# Altium schematic symbol library hdmi_lvds.SchLib: 63 symbols
Pins are listed as number, name and electrical type; pins without a type are passive.

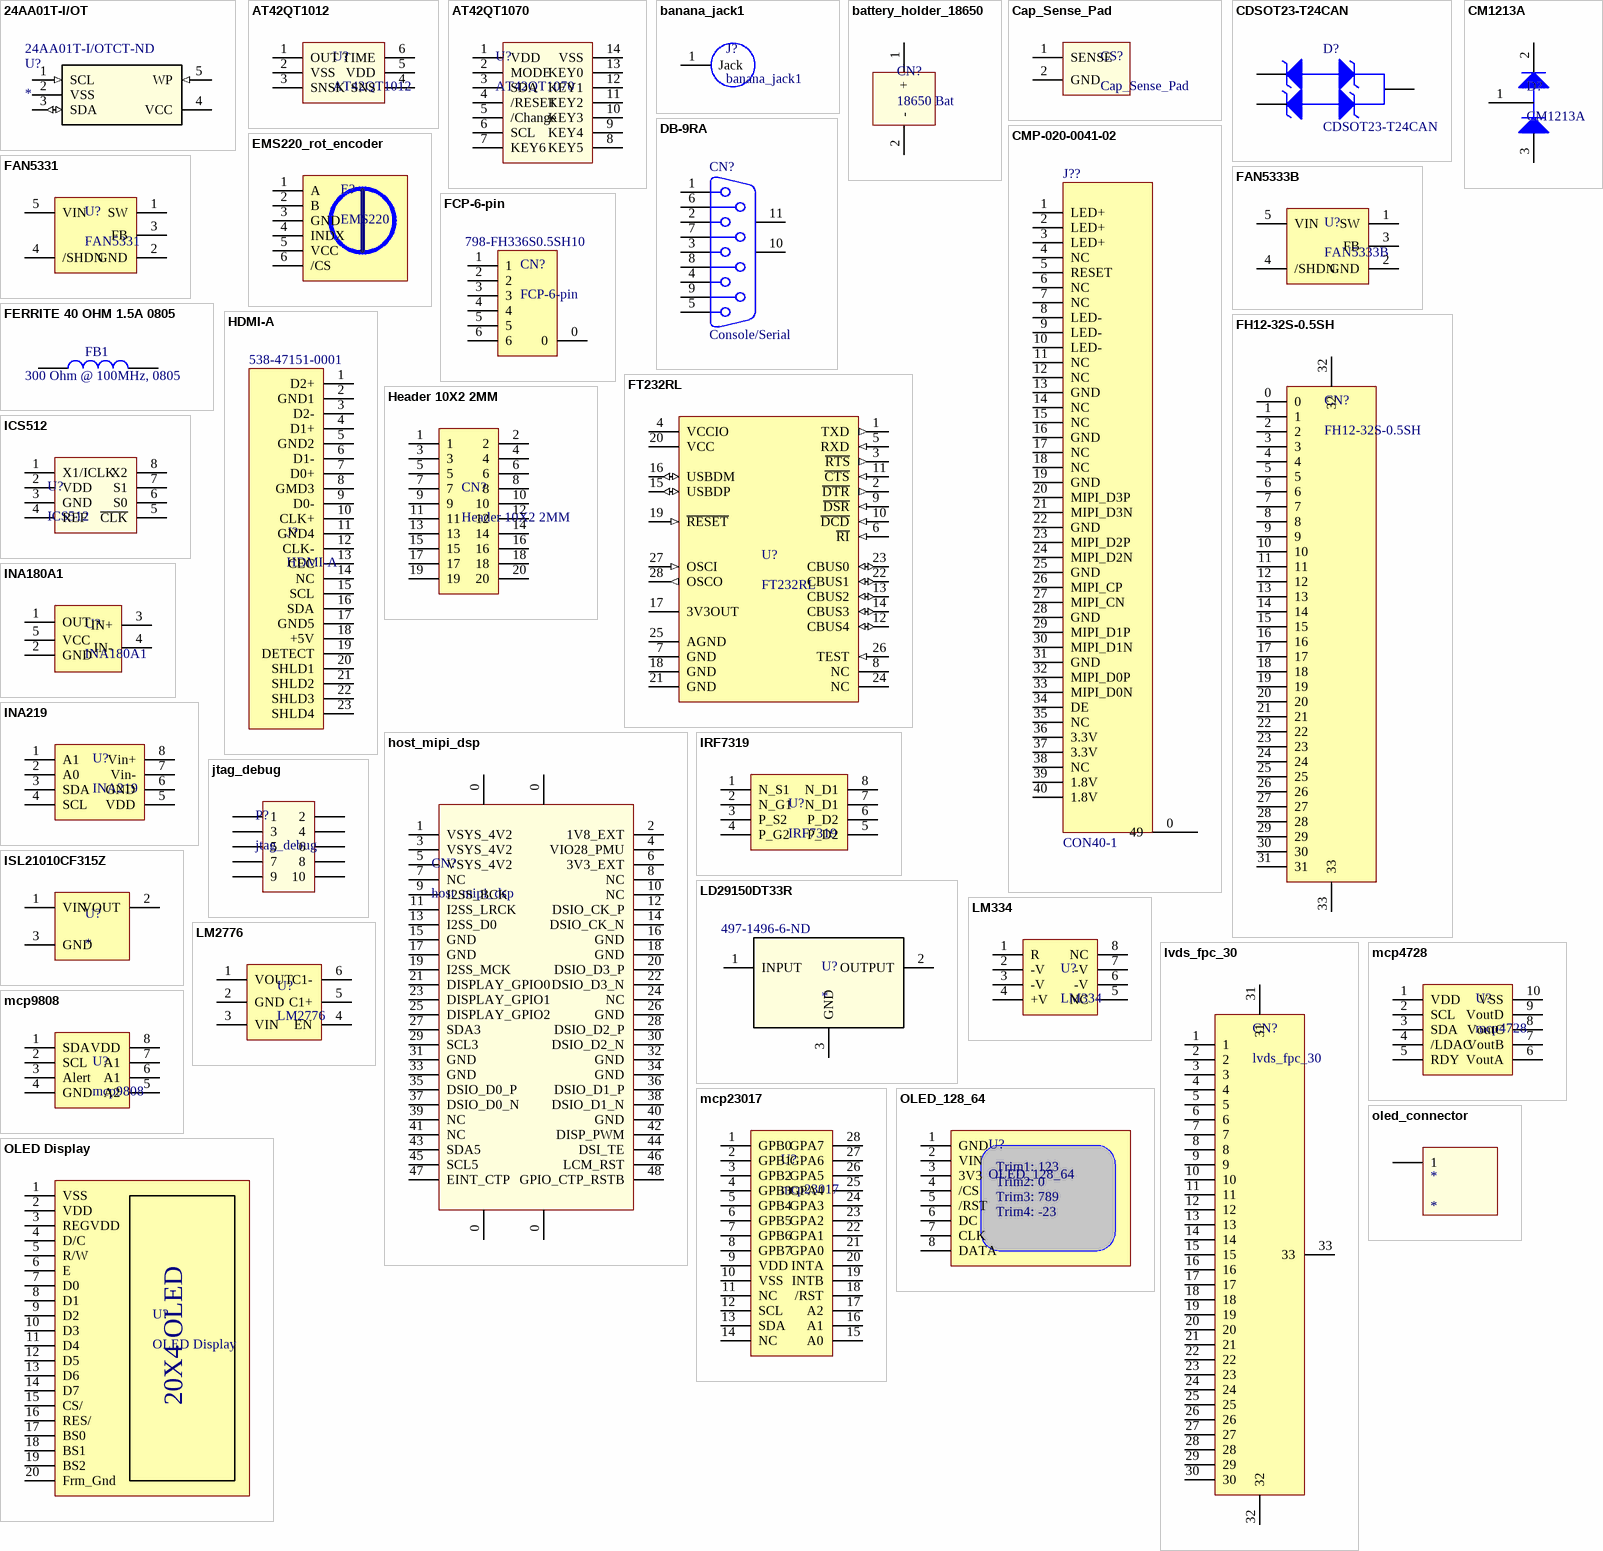
[diagram p0: symbols 24AA01T-I/OT to oled_connector]

## 24AA01T-I/OT
designator U?  Supplier Part Number 1: 24AA01T-I/OTCT-ND
Imported; Manufacturer_Part_Number: 24AA01T-I/OT; Vendor: Microchip; Built_By: EMA_UL_Team; C: Copyright (C) 2015 Accelerated Designs. All rights reserved; RefDes: RefDes; Type: DEV; Value: Value; Supplier 1: Digi-Key
footprint SOT-23-5_MC
pins: 1 SCL (in), 2 VSS, 3 SDA (io), 4 VCC, 5 WP (in)

## AT42QT1012
designator U?
CAP QTouch Chip
footprint SOt-23-6
pins: 1 OUT, 2 VSS, 3 SNSK, 4 SNS, 5 VDD, 6 TIME

## AT42QT1070
designator U?
QTouch IC
footprint SOP14
pins: 1 VDD, 2 MODE, 3 SDA, 4 /RESET, 5 /Change, 6 SCL, 7 KEY6, 8 KEY5, 9 KEY4, 10 KEY3, 11 KEY2, 12 KEY1, 13 KEY0, 14 VSS

## banana_jack1
designator J?
footprint Banana_jack1
pins: 1 Jack

## battery_holder_18650
designator CN?, comment 18650 Bat
footprint battery_holder_18650
pins: 1 +, 2 -

## Cap_Sense_Pad
designator CS?
footprint CAP_SENSE_PAD
footprint CAP_TOUCH_ROUND
pins: 1 SENSE, 2 GND

## CDSOT23-T24CAN
designator D?
CANbus protector; Manufacturer: Bourns; Vendor: Digikey; PN: CDSOT23-T24CANCT-ND; MPN: CDSOT23-T24CAN
footprint SOT23 (SOT-23; 3 Leads; Body 3.0 x 2.5 mm, inc. leads (LxW max))
pins: 1 A, 2 K2, 3 K1

## CM1213A
designator D?
footprint SOT23 (SOT-23; 3 Leads; Body 3.0 x 2.5 mm, inc. leads (LxW max))
pins: 1 K, 2 A2, 3 A1

## CMP-020-0041-02
designator J??, comment CON40-1
40pin PH0.5 FPC for LCD; Manufacturer: Molex, LLC; Manufacturer Part Number: 0541044031; Voltage Rating: 50V; Pitch: 0.020" (0.50mm); Flat Flex Type: FFC, FPC; Mating Cycles: 20; Current Rating: 0.5A; Material Flammability Rating: UL94 V-0; FFC, FCB Thickness: 0.30mm; Number of Positions: 40; Locking Feature: Slide Lock; Termination: Solder; ComponentLink1URL: https://www.molex.com/pdm_docs/sd/541044031_sd.pdf; Pin Count: 41; Component Name: CON40-1; ComponentLink1Description: https://www.molex.com/pdm_docs/sd/541044031_sd.pdf; Height Above Board: 0.079" (2.00mm); RoHS: RoHS Compliant; Mounting Type: Surface Mount, Right Angle; Housing Material: Polyamide (PA46), Nylon 4/6, Glass Filled; Stock 1: 10041; Part Status: Active; Designator: CON40-1; Pricing 1: 1=2.8, 10=2.686, 25=2.4624, 50=2.3506, 100=2.2387, 250=1.95888, 500=1.90292 (USD); Housing Color: White; Operating Temperature: -20°C ~ 85°C; Packaging: Cut Tape (CT); Features: Solder Retention, Zero Insertion Force (ZIF); Manufacturer 1: 0541044031; Manufacturer Part Number 1: 0541044031; Manufacturer 2: Molex; Manufacturer Part Number 2: 54104-4031
footprint SMD FPC SOCKET HD-0.5X40-2
pins: 0 49, 1 LED+, 2 LED+, 3 LED+, 4 NC, 5 RESET, 6 NC, 7 NC, 8 LED-, 9 LED-, 10 LED-, 11 NC, 12 NC, 13 GND, 14 NC, 15 NC, 16 GND, 17 NC, 18 NC, 19 GND, 20 MIPI_D3P, 21 MIPI_D3N, 22 GND, 23 MIPI_D2P, 24 MIPI_D2N, 25 GND, 26 MIPI_CP, 27 MIPI_CN, 28 GND, 29 MIPI_D1P, 30 MIPI_D1N, 31 GND, 32 MIPI_D0P, 33 MIPI_D0N, 34 DE, 35 NC, 36 3.3V, 37 3.3V, 38 NC, 39 1.8V, 40 1.8V

## DB-9RA
designator CN?, comment Console/Serial
Receptacle Assembly, 9 Position, Right Angle; Vendor: Jameco
footprint DB9RAF-SB (DB-9 Right Angle, Short Body)
pins: 1, 2, 3, 4, 5, 6, 7, 8, 9, 10 MH1, 11 MH2

## EMS220_rot_encoder
designator E?, comment EMS220
EMS220_rot_encoder
footprint EMS220_FP (EMS220 rot encoder FP)
pins: 1 A, 2 B, 3 GND, 4 INDX, 5 VCC, 6 /CS

## FAN5331
designator U?
footprint SOT-23-5_MC-L
pins: 1 SW, 2 GND, 3 FB, 4 /SHDN, 5 VIN

## FAN5333B
designator U?
footprint SOT-23-5_MC-L
pins: 1 SW, 2 GND, 3 FB, 4 /SHDN, 5 VIN

## FCP-6-pin
designator CN?  Supplier Part Number 1: 798-FH336S0.5SH10
Supplier 1: Mouser
footprint conn ffc 6 pin
pins: 0, 1, 2, 3, 4, 5, 6

## FERRITE 40 OHM 1.5A 0805
designator FB1, comment 300 Ohm @ 100MHz, 0805
40 OHM 0805 1.5A; Manufacturer: Laird-Signal Integrity Products; Manufacturer Part Number: MI0805K400R-10; DC Resistance (DCR): 50 mOhm Max; Filter Type: Differential Mode - Single; Impedance @ Frequency: 40 Ohm @ 100MHz; Creator: osman; Supplier 1: Digi-Key; RoHS: RoHS Compliant; Category: Filters; Stock 1: 112318; Pricing 1: 1=0.1, 10=0.077, 25=0.07, 50=0.0628, 100=0.0461, 250=0.03352, 500=0.03074, 1000=0.02654 (USD); Packaging: Cut Tape (CT); Current Rating: 1.5A; Package / Case: 0805 (2012 Metric); Mounting Type: Surface Mount; Height (Max): 0.043" (1.10mm); Size / Dimension: 0.079" L x 0.049" W (2.00mm x 1.25mm); ComponentLink1URL: http://staging.lairdtech.com/WorkArea/linkit.aspx?LinkIdentifier=id&ItemID=4949; ComponentLink1Description: http://staging.lairdtech.com/WorkArea/linkit.aspx?LinkIdentifier=id&ItemID=4949; Supplier Part Number 1: 240-2389-1-ND
footprint RESC0805(2012)_N (Chip Resistor, Body 2.0x1.3mm, IPC Medium Density)
footprint RESC0805(2012)_L (Chip Resistor, Body 2.0x1.3mm, IPC High Density)
footprint RESC0805(2012)_M (Chip Resistor, Body 2.0x1.3mm, IPC Low Density)
pins: 1, 2

## FH12-32S-0.5SH
designator CN?
footprint FH12-32S-0,5SH (LVDS_FPC_30)
pins: 0, 1, 2, 3, 4, 5, 6, 7, 8, 9, 10, 11, 12, 13, 14, 15, 16, 17, 18, 19, 20, 21, 22, 23, 24, 25, 26, 27, 28, 29, 30, 31, 32, 33

## FT232RL
designator U?
footprint FT232RL (SOP65P780X200-28L0N, Small Outline Pkg (SOP), 0.65 mm pitch;28 pin,7.80 mm L X 5.30 mm W X 2.00 mm H body)
pins: 1 TXD (out), 2 ~{DTR} (out), 3 ~{RTS} (out), 4 VCCIO (power), 5 RXD (in), 6 ~{RI} (in), 7 GND (power), 8 NC, 9 ~{DSR} (in), 10 ~{DCD} (in), 11 ~{CTS} (in), 12 CBUS4 (io), 13 CBUS2 (io), 14 CBUS3 (io), 15 USBDP (io), 16 USBDM (io), 17 3V3OUT (power), 18 GND (power), 19 ~{RESET} (in), 20 VCC (power), 21 GND (power), 22 CBUS1 (io), 23 CBUS0 (io), 24 NC, 25 AGND (power), 26 TEST (in), 27 OSCI (in), 28 OSCO (out)

## HDMI-A
designator J?  Supplier Part Number 1: 538-47151-0001
Supplier 1: Mouser
footprint HDMI (HDMI normal)
pins: 1 D2+, 2 GND1, 3 D2-, 4 D1+, 5 GND2, 6 D1-, 7 D0+, 8 GMD3, 9 D0-, 10 CLK+, 11 GND4, 12 CLK-, 13 CEC, 14 NC, 15 SCL, 16 SDA, 17 GND5, 18 +5V, 19 DETECT, 20 SHLD1, 21 SHLD2, 22 SHLD3, 23 SHLD4

## Header 10X2 2MM
designator CN?
footprint Header 10x2 2mm
pins: 1, 2, 3, 4, 5, 6, 7, 8, 9, 10, 11, 12, 13, 14, 15, 16, 17, 18, 19, 20

## host_mipi_dsp
designator CN?
pins: 0, 0, 0, 0, 1 VSYS_4V2, 2 1V8_EXT, 3 VSYS_4V2, 4 VIO28_PMU, 5 VSYS_4V2, 6 3V3_EXT, 7 NC, 8 NC, 9 I2SS_BCK, 10 NC, 11 I2SS_LRCK, 12 DSIO_CK_P, 13 I2SS_D0, 14 DSIO_CK_N, 15 GND, 16 GND, 17 GND, 18 GND, 19 I2SS_MCK, 20 DSIO_D3_P, 21 DISPLAY_GPIO0, 22 DSIO_D3_N, 23 DISPLAY_GPIO1, 24 NC, 25 DISPLAY_GPIO2, 26 GND, 27 SDA3, 28 DSIO_D2_P, 29 SCL3, 30 DSIO_D2_N, 31 GND, 32 GND, 33 GND, 34 GND, 35 DSIO_D0_P, 36 DSIO_D1_P, 37 DSIO_D0_N, 38 DSIO_D1_N, 39 NC, 40 GND, 41 NC, 42 DISP_PWM, 43 SDA5, 44 DSI_TE, 45 SCL5, 46 LCM_RST, 47 EINT_CTP, 48 GPIO_CTP_RSTB

## ICS512
designator U?
footprint SOIC8
pins: 1 X1/ICLK, 2 VDD, 3 GND, 4 REF, 5 ~{CLK}, 6 S0, 7 S1, 8 X2

## INA180A1
designator U?
footprint SOT-23-5_MC
pins: 1 OUT, 2 GND, 3 IN+, 4 IN-, 5 VCC

## INA219
designator U?
Current Monitor IC
footprint INA219 (Current Monitor)
pins: 1 A1, 2 A0, 3 SDA, 4 SCL, 5 VDD, 6 GND, 7 Vin-, 8 Vin+

## IRF7319
designator U?
pins: 1 N_S1, 2 N_G1, 3 P_S2, 4 P_G2, 5 P_D2, 6 P_D2, 7 N_D1, 8 N_D1

## ISL21010CF315Z
designator U?
footprint SOT23 (SOT-23; 3 Leads; Body 3.0 x 2.5 mm, inc. leads (LxW max))
pins: 1 VIN, 2 VOUT, 3 GND

## jtag_debug
designator P?
footprint jtag_debug
pins: 1, 2, 3, 4, 5, 6, 7, 8, 9, 10

## LD29150DT33R
designator U?  Supplier Part Number 1: 497-1496-6-ND
Imported; Manufacturer_Part_Number: LD29150DT33R; Built_By: EMA_UL_Team; Vendor: STMicroelectronics; RefDes: RefDes; Type: DEV; Value: Value; Supplier 1: Digi-Key
footprint DPAK
pins: 1 INPUT, 2 OUTPUT, 3 GND

## LM334
designator U?
LM334, Current source
footprint LM334 (LM334, Current Source)
footprint LM334 (LM334, Current Source)
pins: 1 R, 2 -V, 3 -V, 4 +V, 5 NC, 6 -V, 7 -V, 8 NC

## LM2776
designator U?
footprint SOt-23-6
pins: 1 VOUT, 2 GND, 3 VIN, 4 EN, 5 C1+, 6 C1-

## lvds_fpc_30
designator CN?
footprint LVDS_FPC_30
pins: 1, 2, 3, 4, 5, 6, 7, 8, 9, 10, 11, 12, 13, 14, 15, 16, 17, 18, 19, 20, 21, 22, 23, 24, 25, 26, 27, 28, 29, 30, 31, 32, 33

## mcp4728
designator U?
footprint MCP4728 (12 bit, Quad DAC)
pins: 1 VDD, 2 SCL, 3 SDA, 4 /LDAC, 5 RDY, 6 VoutA, 7 VoutB, 8 VoutC, 9 VoutD, 10 VSS

## mcp9808
designator U?
footprint 8MSOP
pins: 1 SDA, 2 SCL, 3 Alert, 4 GND, 5 A2, 6 A1, 7 A1, 8 VDD

## mcp23017
designator U?
I2C 16 bit Expander
footprint SOIC28
pins: 1 GPB0, 2 GPB1, 3 GPB2, 4 GPB3, 5 GPB4, 6 GPB5, 7 GPB6, 8 GPB7, 9 VDD, 10 VSS, 11 NC, 12 SCL, 13 SDA, 14 NC, 15 A0, 16 A1, 17 A2, 18 /RST, 19 INTB, 20 INTA, 21 GPA0, 22 GPA1, 23 GPA2, 24 GPA3, 25 GPA4, 26 GPA5, 27 GPA6, 28 GPA7

## OLED Display
designator U?
footprint oled (OLED Display)
pins: 1 VSS, 2 VDD, 3 REGVDD, 4 D/C, 5 R/W, 6 E, 7 D0, 8 D1, 9 D2, 10 D3, 11 D4, 12 D5, 13 D6, 14 D7, 15 CS/, 16 RES/, 17 BS0, 18 BS1, 19 BS2, 20 Frm_Gnd
text: 20X4 OLED

## OLED_128_64
designator U?
footprint OLED_128_64
pins: 1 GND, 2 VIN, 3 3V3, 4 /CS, 5 /RST, 6 DC, 7 CLK, 8 DATA
text: Trim1: 123; Trim2: 0; Trim3: 789; Trim4: -23

## oled_connector
designator *
pins: 1

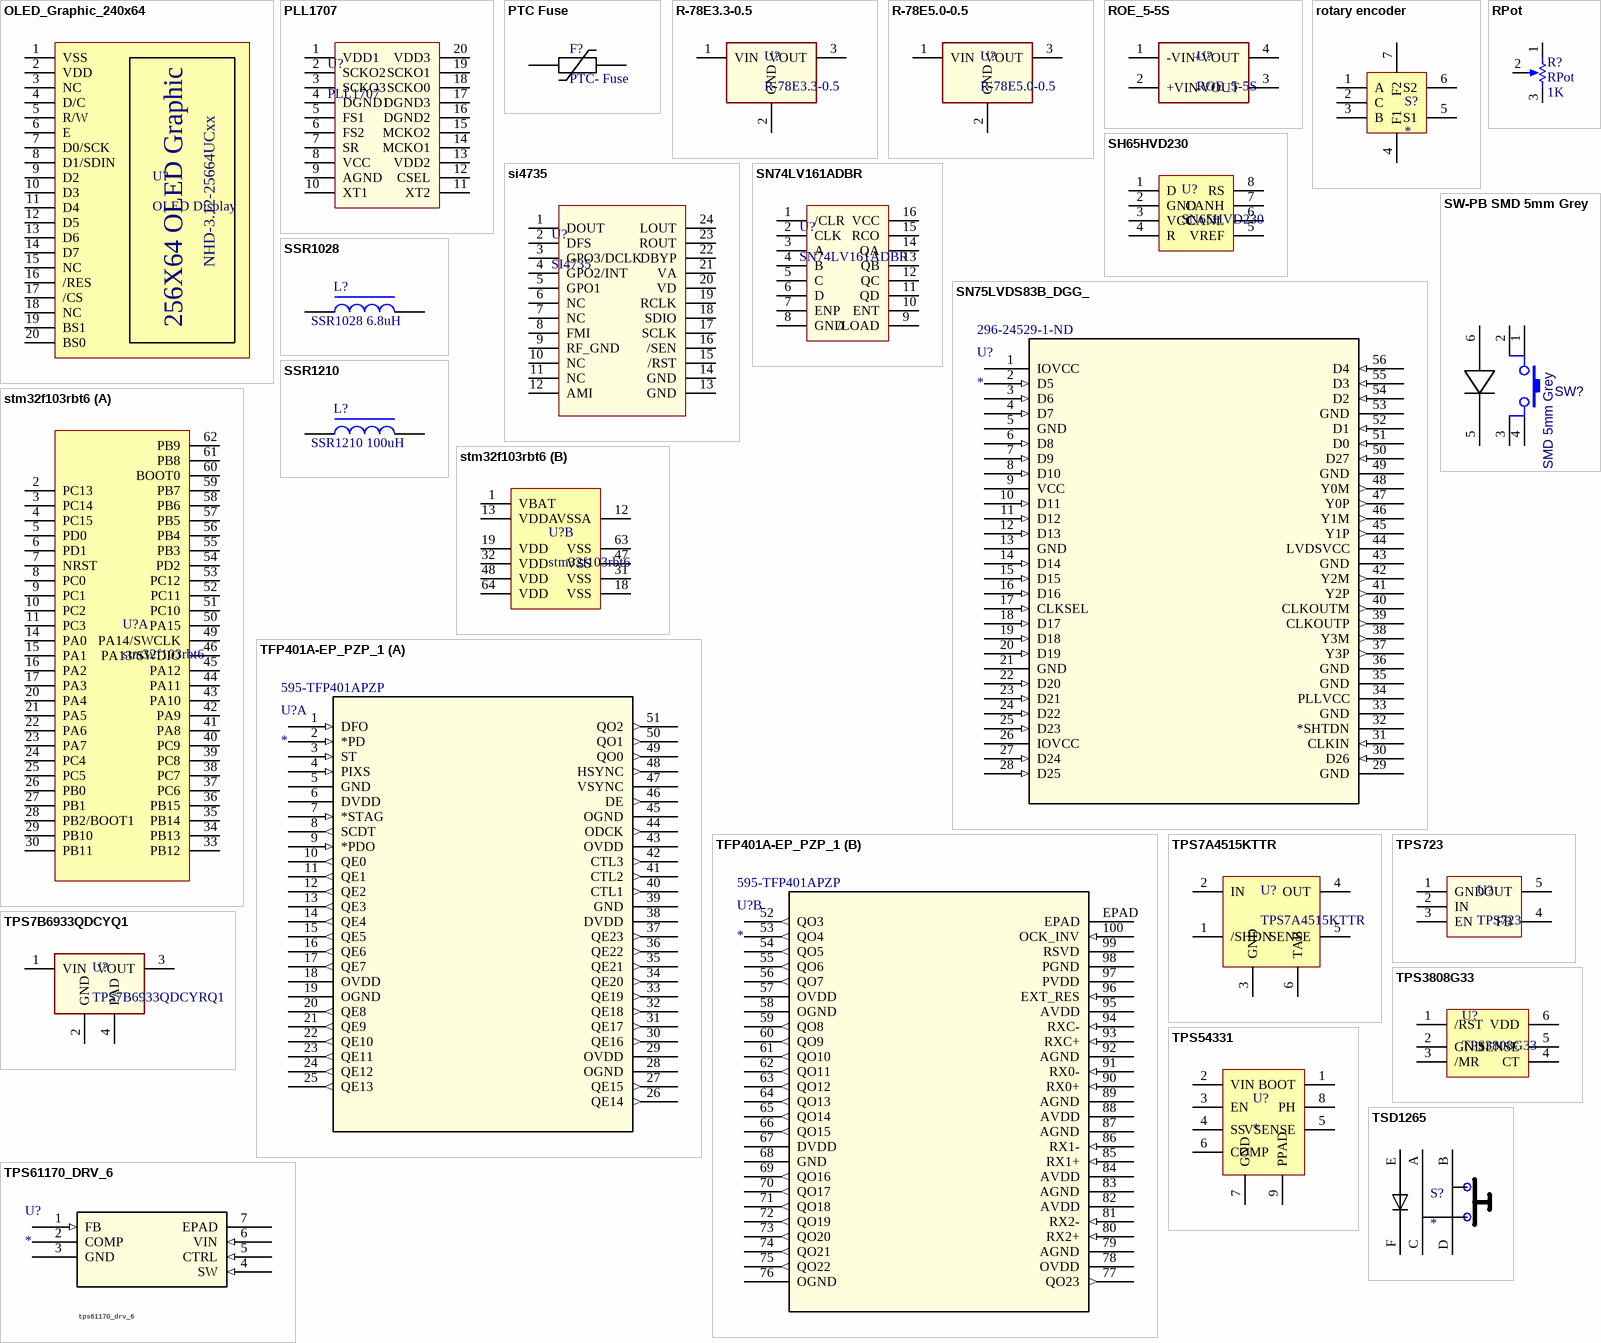
[diagram p1: symbols OLED_Graphic_240x64 to TSD1265]

## OLED_Graphic_240x64
designator U?, comment OLED Display
footprint oled_graphic_256X64 (OLED Display graphic 256x64)
pins: 1 VSS, 2 VDD, 3 NC, 4 D/C, 5 R/W, 6 E, 7 D0/SCK, 8 D1/SDIN, 9 D2, 10 D3, 11 D4, 12 D5, 13 D6, 14 D7, 15 NC, 16 /RES, 17 /CS, 18 NC, 19 BS1, 20 BS0
text: NHD-3.12-25664UCxx; 256X64 OLED Graphic

## PLL1707
designator U?
footprint SSOP20
pins: 1 VDD1, 2 SCKO2, 3 SCKO3, 4 DGND1, 5 FS1, 6 FS2, 7 SR, 8 VCC, 9 AGND, 10 XT1, 11 XT2, 12 CSEL, 13 VDD2, 14 MCKO1, 15 MCKO2, 16 DGND2, 17 DGND3, 18 SCKO0, 19 SCKO1, 20 VDD3

## PTC Fuse
designator F?, comment PTC- Fuse
footprint RES-3216[1206] (Chip Resistor; Body 3.2 x 1.6 mm (LxW typ))
pins: 1, 2

## R-78E3.3-0.5
designator U?
3.3 volt dc/dc converter
footprint R-78E3.3-0.5 (3.3 V DC/DC Converter)
pins: 1 VIN (power), 2 GND (power), 3 VOUT

## R-78E5.0-0.5
designator U?
5.0 volt dc/dc converter
footprint R-78E5.0-0.5 (5.0 V DC/DC Converter)
pins: 1 VIN (power), 2 GND (power), 3 VOUT

## ROE_5-5S
designator U?
isolated DC/DC  converter
footprint ROE_5-55 (isolated DC/DC  converter)
pins: 1 -VIN (power), 2 +VIN (power), 3 -VOUT, 4 +VOUT (power)

## rotary encoder
designator S?
footprint rotary encoder
pins: 1 A, 2 C, 3 B, 4 F1, 5 S1, 6 S2, 7 F2

## RPot
designator R?  value 1K
Potentiometer; Sim Note: Enter the Resistance value and the set point into parameter fields.; Set Position: 0.5; Published: 8-Jun-2000; LatestRevisionDate: 17-Jul-2002; LatestRevisionNote: Re-released for DXP Platform.; PackageReference: VR5; Publisher: Altium Limited; PackageDescription: Variable Resistor, Thru-Hole; 3 Leads
footprint R-POT
pins: 1 TOP, 2 TAP, 3 BOT
1 alternate drawing of the same symbol

## SH65HVD230
designator U?, comment SN65HVD230
CAN driver
footprint SOIC8
pins: 1 D, 2 GND, 3 VCC, 4 R, 5 VREF, 6 CANL, 7 CANH, 8 RS

## si4735
designator U?, comment SI4735
footprint SSOP24
pins: 1 DOUT, 2 DFS, 3 GPO3/DCLK, 4 GPO2/INT, 5 GPO1, 6 NC, 7 NC, 8 FMI, 9 RF_GND, 10 NC, 11 NC, 12 AMI, 13 GND, 14 GND, 15 /RST, 16 /SEN, 17 SCLK, 18 SDIO, 19 RCLK, 20 VD, 21 VA, 22 DBYP, 23 ROUT, 24 LOUT

## SN74LV161ADBR
designator U?
footprint 74LV161ADBR_SSOP16
pins: 1 /CLR, 2 CLK, 3 A, 4 B, 5 C, 6 D, 7 ENP, 8 GND, 9 /LOAD, 10 ENT, 11 QD, 12 QC, 13 QB, 14 QA, 15 RCO, 16 VCC

## SN75LVDS83B_DGG_
designator U?  Supplier Part Number 1: 296-24529-1-ND
Imported; Manufacturer: Texas Instruments; GENERIC_PART_NUMBER: SN75LVDS83B; Manufacturer_Part_Number: sn75lvds83b_dgg_56; INDUSTRY_STD_PKG_TYPE: TSSOP; FAMILY_NAME: FLATLINK (LVDS FOR LCD); PIN_COUNT: 56; PACKAGE_DESIGNATOR: DGG; Datasheet_URL: http://www.ti.com/lit/gpn/SN75LVDS83B; Vendor: Texas Instruments; Value: Value; Type: Type; RefDes: RefDes; Supplier 1: Digi-Key
footprint DGG56
pins: 1 IOVCC (power), 2 D5 (in), 3 D6 (in), 4 D7 (in), 5 GND (power), 6 D8 (in), 7 D9 (in), 8 D10 (in), 9 VCC (power), 10 D11 (in), 11 D12 (in), 12 D13 (in), 13 GND (power), 14 D14 (in), 15 D15 (in), 16 D16 (in), 17 CLKSEL (in), 18 D17 (in), 19 D18 (in), 20 D19 (in), 21 GND (power), 22 D20 (in), 23 D21 (in), 24 D22 (in), 25 D23 (in), 26 IOVCC (power), 27 D24 (in), 28 D25 (in), 29 GND (power), 30 D26 (in), 31 CLKIN (in), 32 *SHTDN (power), 33 GND (power), 34 PLLVCC (power), 35 GND (power), 36 GND (power), 37 Y3P (out), 38 Y3M (out), 39 CLKOUTP (out), 40 CLKOUTM (out), 41 Y2P (out), 42 Y2M (out), 43 GND (power), 44 LVDSVCC (power), 45 Y1P (out), 46 Y1M (out), 47 Y0P (out), 48 Y0M (out), 49 GND (power), 50 D27 (in), 51 D0 (in), 52 D1 (in), 53 GND (power), 54 D2 (in), 55 D3 (in), 56 D4 (in)

## SSR1028
designator L?, comment SSR1028 6.8uH
INDUCTOR 6.8uH  SMD; Manufacturer 1: Taiyo Yuden; Manufacturer Part Number 1: NRS8040T4R7NJGJV; Current Rating: 4.1A; Test Frequency: 100kHz; DC Resistance (DCR): 18mR; Saturation Current: 5.4A; Tolerance: 30%; Self Resonant Frequency: 30MHz; Core Material: Ferrite; Inductance: 4.7uh; Shielding: Shielded; Width: 0.315inch; Case/Package: 8040; Min Operating Temperature: -25°C; Packaging: Tape and Reel; Depth: 8.2mm; Max Operating Temperature: 125°C; Lead Free: Lead Free; Mount: Surface Mount; REACH SVHC: Unknown; Number of Pins: 2; Radiation Hardening: No; Height: 4.2mm; Inductance Tolerance: 30%; Package Quantity: 1000; Length: 8mm; RMS Current (Irms): 4.1A; Lead Pitch: 5.6mm; Max DC Current: 5.4A; Termination: SMD/SMT; Halogen Free: Halogen Free
footprint SRU1028 (SRU1028 inductor 4.7uH)
pins: 1, 2

## SSR1210
designator L?, comment SSR1210 100uH
INDUCTOR 100uH 2.2A SMD; Manufacturer 1: Taiyo Yuden; Manufacturer Part Number 1: NRS8040T4R7NJGJV; Current Rating: 4.1A; Test Frequency: 100kHz; DC Resistance (DCR): 18mR; Saturation Current: 5.4A; Tolerance: 30%; Self Resonant Frequency: 30MHz; Core Material: Ferrite; Inductance: 4.7uh; Shielding: Shielded; Width: 0.315inch; Case/Package: 8040; Min Operating Temperature: -25°C; Packaging: Tape and Reel; Depth: 8.2mm; Max Operating Temperature: 125°C; Lead Free: Lead Free; Mount: Surface Mount; REACH SVHC: Unknown; Number of Pins: 2; Radiation Hardening: No; Height: 4.2mm; Inductance Tolerance: 30%; Package Quantity: 1000; Length: 8mm; RMS Current (Irms): 4.1A; Lead Pitch: 5.6mm; Max DC Current: 5.4A; Termination: SMD/SMT; Halogen Free: Halogen Free
footprint SRR1210 (SRR1210 inductor 100uH)
pins: 1, 2

## stm32f103rbt6
designator U?
footprint LQFP64 (LQPF64)
part A pins: 2 PC13, 3 PC14, 4 PC15, 5 PD0, 6 PD1, 7 NRST, 8 PC0, 9 PC1, 10 PC2, 11 PC3, 14 PA0, 15 PA1, 16 PA2, 17 PA3, 20 PA4, 21 PA5, 22 PA6, 23 PA7, 24 PC4, 25 PC5, 26 PB0, 27 PB1, 28 PB2/BOOT1, 29 PB10, 30 PB11, 33 PB12, 34 PB13, 35 PB14, 36 PB15, 37 PC6, 38 PC7, 39 PC8, 40 PC9, 41 PA8, 42 PA9, 43 PA10, 44 PA11, 45 PA12, 46 PA13/SWDIO, 49 PA14/SWCLK, 50 PA15, 51 PC10, 52 PC11, 53 PC12, 54 PD2, 55 PB3, 56 PB4, 57 PB5, 58 PB6, 59 PB7, 60 BOOT0, 61 PB8, 62 PB9
part B pins: 1 VBAT, 12 VSSA, 13 VDDA, 18 VSS, 19 VDD, 31 VSS, 32 VDD, 47 VSS, 48 VDD, 63 VSS, 64 VDD

## SW-PB SMD 5mm Grey
designator SW?
SWITCH TACTILE SPST-NO 0.05A 12V; Manufacturer: C&K Components; Manufacturer Part Number: PTS645SH50SMTR92 LFS; Switch Function: Off-Mom; Contact Rating @ Voltage: 0.05A @ 12VDC; Actuator Type: Standard; Actuator Height off PCB, from Pins: 5.00mm; Actuator Orientation: Top Actuated; Outline: 6.00mm x 6.00mm; Illumination: Non-Illuminated; Operating Force: 200gf; Actuator Material: Polyamide (PA66), Nylon 6/6; Mechanical Life: 100,000 Cycles; Supplier 1: Digi-Key; RoHS: RoHS Compliant; Category: Switches; Stock 1: 77361; Pricing 1: 1=0.25, 10=0.239, 25=0.2312, 50=0.2228, 100=0.2104, 250=0.198, 500=0.18976 (USD); Packaging: Cut Tape (CT); Circuit: SPST-NO; Mounting Type: Surface Mount; Termination Style: Gull Wing; Illumination Voltage (Nominal): -; Illumination Type, Color: -; Ingress Protection: -; Features: -; Switch Travel: -; Operating Temperature: -20°C ~ 60°C; ComponentLink1URL: http://www.ck-components.com/14409/pts645_25apr13.pdf/; ComponentLink1Description: http://www.ck-components.com/14409/pts645_25apr13.pdf/; Supplier Part Number 1: CKN9085CT-ND
footprint SW TACT Gray 6mm x 6mm (Switch, tactile, gray button, SMD 6 mm x 6 mm)
pins: 1, 2, 3, 4, 5, 6

## TFP401A-EP_PZP_1
designator U?  Supplier Part Number 1: 595-TFP401APZP
Imported; Manufacturer: Texas Instruments; GENERIC_PART_NUMBER: TFP401A-EP; Manufacturer_Part_Number: tfp401a-ep_pzp_100; INDUSTRY_STD_PKG_TYPE: HTQFP; FAMILY_NAME: PANELBUS (DVI); PIN_COUNT: 100; PACKAGE_DESIGNATOR: PZP; Datasheet_URL: http://www.ti.com/lit/gpn/TFP401A-EP; Vendor: Texas Instruments; Value: Value; Type: Type; RefDes: RefDes; Supplier 1: Mouser
footprint PZP100_5P2X5P2
part A pins: 1 DFO (in), 2 *PD (in), 3 ST (in), 4 PIXS (in), 5 GND (power), 6 DVDD (power), 7 *STAG (in), 8 SCDT (out), 9 *PDO (in), 10 QE0 (out), 11 QE1 (out), 12 QE2 (out), 13 QE3 (out), 14 QE4 (out), 15 QE5 (out), 16 QE6 (out), 17 QE7 (out), 18 OVDD (power), 19 OGND (power), 20 QE8 (out), 21 QE9 (out), 22 QE10 (out), 23 QE11 (out), 24 QE12 (out), 25 QE13 (out), 26 QE14 (out), 27 QE15 (out), 28 OGND (power), 29 OVDD (power), 30 QE16 (out), 31 QE17 (out), 32 QE18 (out), 33 QE19 (out), 34 QE20 (out), 35 QE21 (out), 36 QE22 (out), 37 QE23 (out), 38 DVDD (power), 39 GND (power), 40 CTL1 (out), 41 CTL2 (out), 42 CTL3 (out), 43 OVDD (power), 44 ODCK (out), 45 OGND (power), 46 DE (out), 47 VSYNC (power), 48 HSYNC (out), 49 QO0 (out), 50 QO1 (out), 51 QO2 (out)
part B pins: 52 QO3 (out), 53 QO4 (out), 54 QO5 (out), 55 QO6 (out), 56 QO7 (out), 57 OVDD (power), 58 OGND (power), 59 QO8 (out), 60 QO9 (out), 61 QO10 (out), 62 QO11 (out), 63 QO12 (out), 64 QO13 (out), 65 QO14 (out), 66 QO15 (out), 67 DVDD (power), 68 GND (power), 69 QO16 (out), 70 QO17 (out), 71 QO18 (out), 72 QO19 (out), 73 QO20 (out), 74 QO21 (out), 75 QO22 (out), 76 OGND (power), 77 QO23 (out), 78 OVDD (power), 79 AGND (power), 80 RX2+ (in), 81 RX2- (in), 82 AVDD (power), 83 AGND (power), 84 AVDD (power), 85 RX1+ (in), 86 RX1- (in), 87 AGND (power), 88 AVDD (power), 89 AGND (power), 90 RX0+ (in), 91 RX0- (in), 92 AGND (power), 93 RXC+ (in), 94 RXC- (in), 95 AVDD (power), 96 EXT_RES (in), 97 PVDD (power), 98 PGND (power), 99 RSVD, 100 OCK_INV (in), EPAD

## TPS7A4515KTTR
designator U?
TPS7A4515KTTR, linear regulator
footprint TPS7A4515KTTR
pins: 1 /SHDN, 2 IN, 3 GND, 4 OUT, 5 SENSE, 6 TAB

## TPS7B6933QDCYQ1
designator U?, comment TPS7B6933QDCYRQ1
footprint SOT-223
pins: 1 VIN (power), 2 GND (power), 3 VOUT, 4 PAD

## TPS723
designator U?
footprint SOt-23-5
pins: 1 GND, 2 IN, 3 EN, 4 FB, 5 OUT

## TPS3808G33
designator U?
footprint SOt-23-6
pins: 1 /RST, 2 GND, 3 /MR, 4 CT, 5 SENSE, 6 VDD

## TPS54331
designator U?
TPS54331
footprint TPS54331 (TPS54331 footprint)
pins: 1 BOOT, 2 VIN, 3 EN, 4 SS, 5 VSENSE, 6 COMP, 7 GND, 8 PH, 9 PPAD

## TPS61170_DRV_6
designator U?  Manufacturer_Part_Number: tps61170_drv_6
Imported; GENERIC_PART_NUMBER: TPS61170; Vendor: Texas Instruments; PACKAGE_DESIGNATOR: DRV; PIN_COUNT: 6; FAMILY_NAME: STEP-UP REGULATOR; INDUSTRY_STD_PKG_TYPE: SON; Manufacturer: Texas Instruments; Datasheet_URL: http://www.ti.com/lit/gpn/TPS61170; Value: Value; Type: Type; RefDes: RefDes; Supplier 1: Digi-Key; Supplier Part Number 1: 296-32502-1-ND
footprint DRV6_1P6X1
pins: 1 FB (in), 2 COMP, 3 GND, 4 SW (in), 5 CTRL (in), 6 VIN (in), 7 EPAD

## TSD1265
designator S?
Button sw with LED
footprint TSD1265
pins: A, B, C, D, E, F

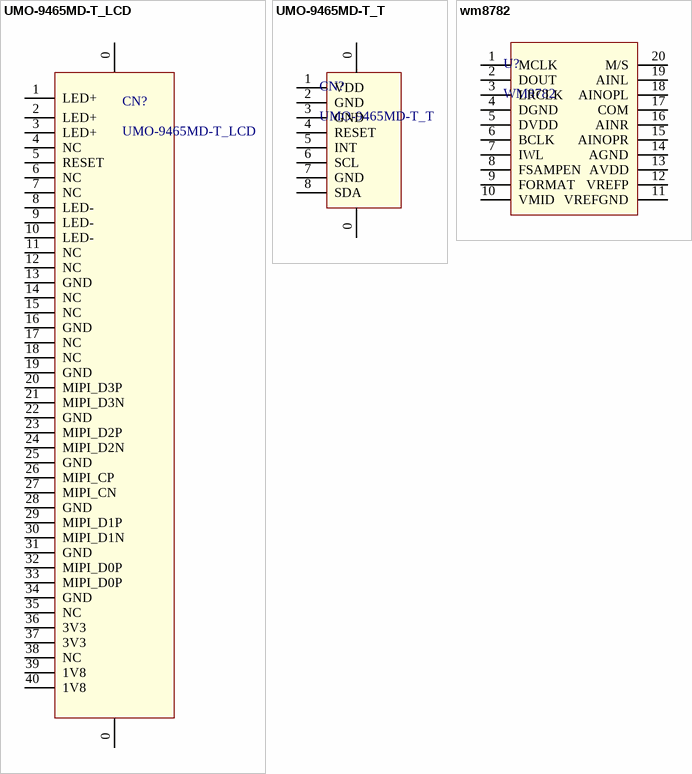
[diagram p2: symbols UMO-9465MD-T_LCD to wm8782]

## UMO-9465MD-T_LCD
designator CN?
pins: 0, 0, 1 LED+, 2 LED+, 3 LED+, 4 NC, 5 RESET, 6 NC, 7 NC, 8 LED-, 9 LED-, 10 LED-, 11 NC, 12 NC, 13 GND, 14 NC, 15 NC, 16 GND, 17 NC, 18 NC, 19 GND, 20 MIPI_D3P, 21 MIPI_D3N, 22 GND, 23 MIPI_D2P, 24 MIPI_D2N, 25 GND, 26 MIPI_CP, 27 MIPI_CN, 28 GND, 29 MIPI_D1P, 30 MIPI_D1N, 31 GND, 32 MIPI_D0P, 33 MIPI_D0P, 34 GND, 35 NC, 36 3V3, 37 3V3, 38 NC, 39 1V8, 40 1V8

## UMO-9465MD-T_T
designator CN?
pins: 0, 0, 1 VDD, 2 GND, 3 GND, 4 RESET, 5 INT, 6 SCL, 7 GND, 8 SDA

## wm8782
designator U?, comment WM8782
Audio I2S ADC
footprint wm8782_SOP20
pins: 1 MCLK, 2 DOUT, 3 LRCLK, 4 DGND, 5 DVDD, 6 BCLK, 7 IWL, 8 FSAMPEN, 9 FORMAT, 10 VMID, 11 VREFGND, 12 VREFP, 13 AVDD, 14 AGND, 15 AINOPR, 16 AINR, 17 COM, 18 AINOPL, 19 AINL, 20 M/S